# Altium schematic symbol library BQ29330DBT.SchLib: 1 symbol
Pins are listed as number, name and electrical type; pins without a type are passive.

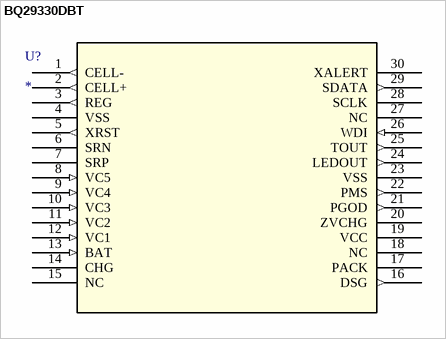
[diagram p0: symbol BQ29330DBT]

## BQ29330DBT
designator U?
No Description Available; Mfr_Name: Texas Instruments; RefDes: RefDes; Type: Type
footprint DBT30
pins: 1 CELL- (out), 2 CELL+ (out), 3 REG (out), 4 VSS (power), 5 XRST (out), 6 SRN, 7 SRP, 8 VC5 (in), 9 VC4 (in), 10 VC3 (in), 11 VC2 (in), 12 VC1 (in), 13 BAT (in), 14 CHG, 15 NC, 16 DSG (out), 17 PACK, 18 NC, 19 VCC (power), 20 ZVCHG, 21 PGOD (out), 22 PMS (out), 23 VSS (power), 24 LEDOUT (out), 25 TOUT (out), 26 WDI (in), 27 NC, 28 SCLK, 29 SDATA (out), 30 XALERT